# EAGLE library part MBH7BLZ02-109004 (library circuit_tree)
IC
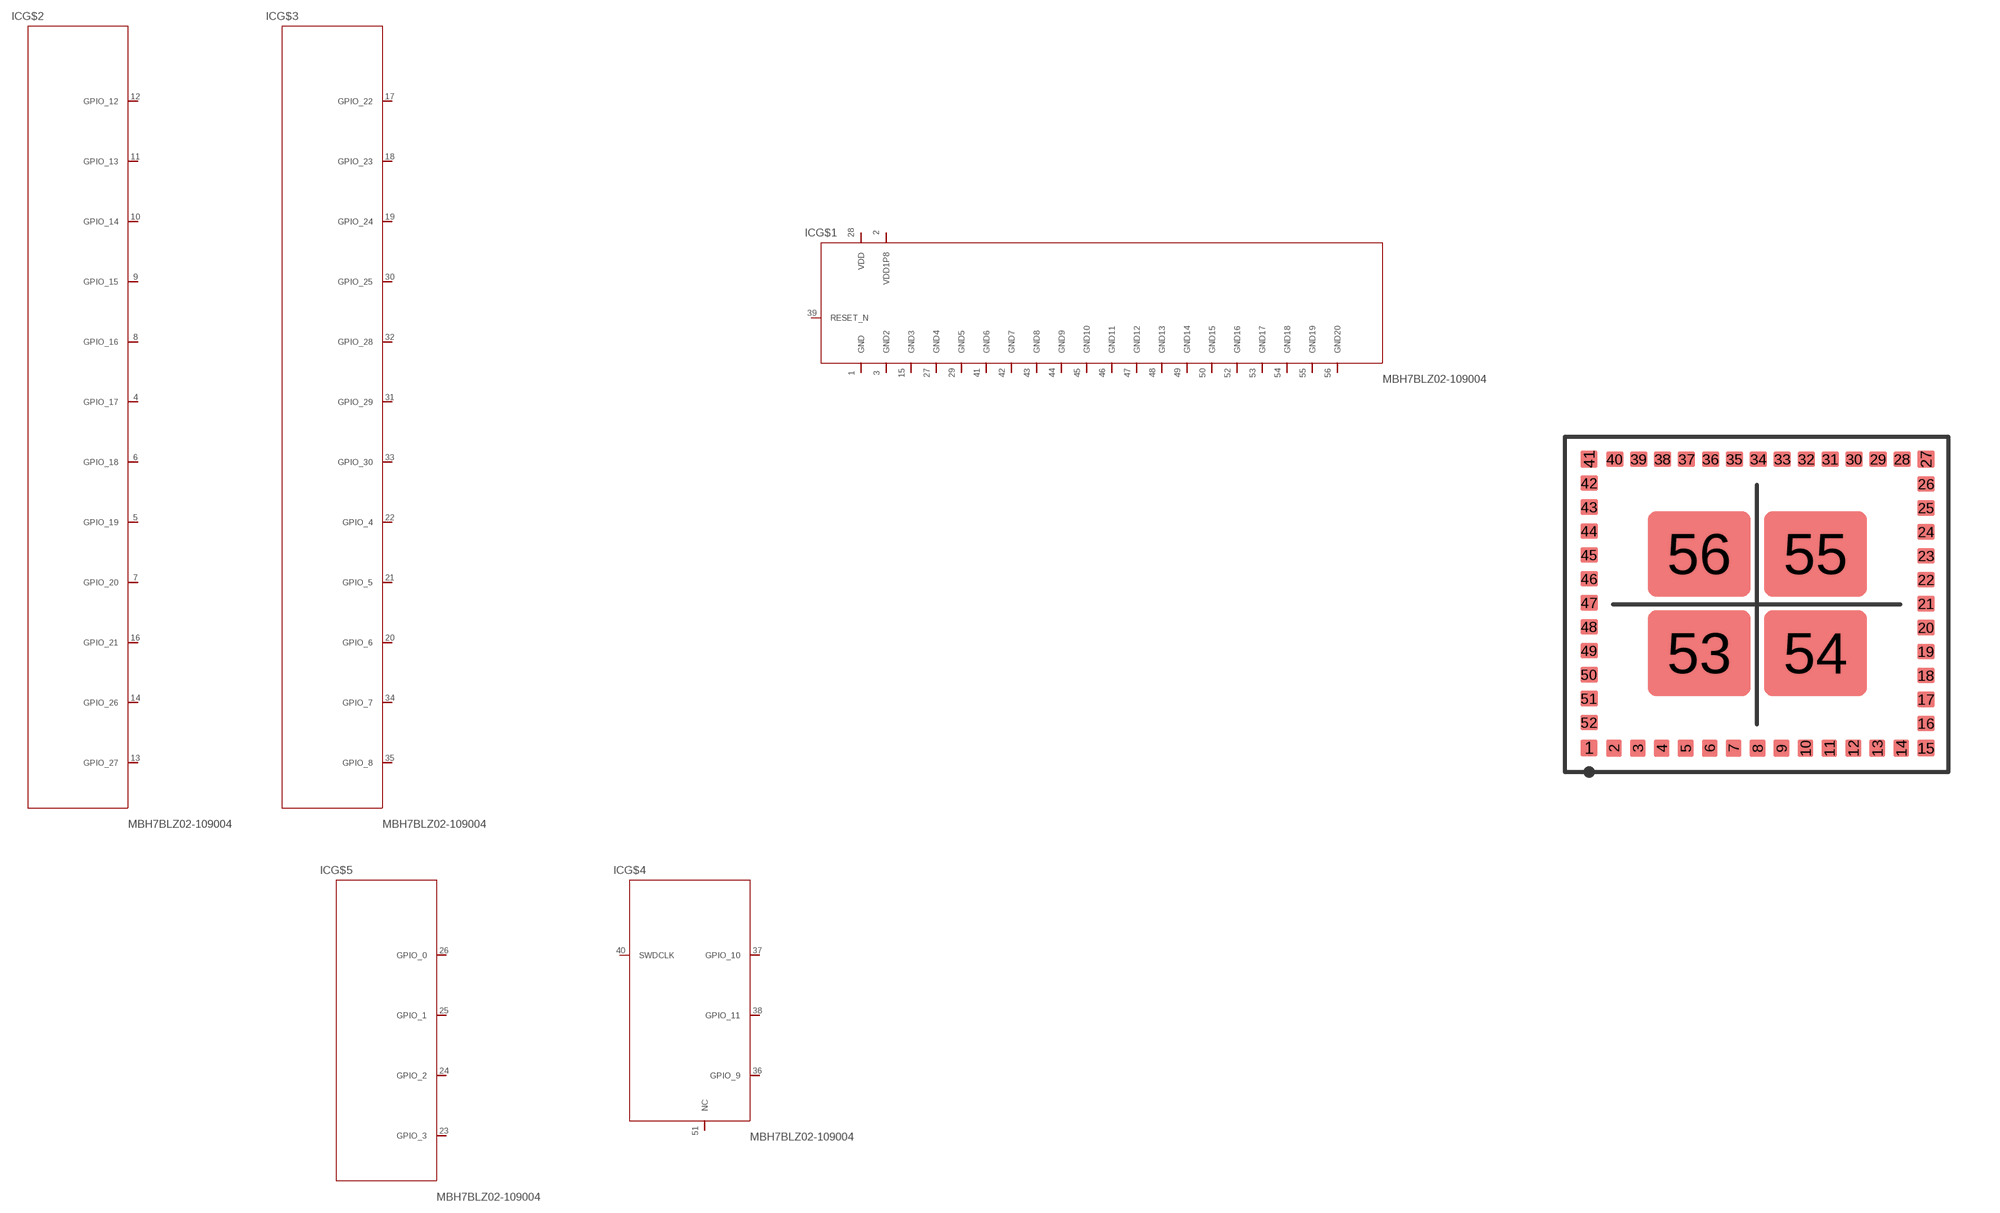
[diagram p4: symbol with the pads of MBH7BLZ02-109004; footprint MBH7BLZ02-109004]

Designator prefix IC; gates G$1=MBH7BLZ02-109004 G$2=MBH7BLZ02-1090042 G$3=MBH7BLZ02-1090043 G$4=MBH7BLZ02-1090044 G$5=MBH7BLZ02-1090045

## MBH7BLZ02-109004  [MBH7BLZ02-109004]
1  G$1:GND  pas
2  G$1:VDD1P8  pas
3  G$1:GND2  pas
4  G$2:GPIO_17  pas
5  G$2:GPIO_19  pas
6  G$2:GPIO_18  pas
7  G$2:GPIO_20  pas
8  G$2:GPIO_16  pas
9  G$2:GPIO_15  pas
10  G$2:GPIO_14  pas
11  G$2:GPIO_13  pas
12  G$2:GPIO_12  pas
13  G$2:GPIO_27  pas
14  G$2:GPIO_26  pas
15  G$1:GND3  pas
16  G$2:GPIO_21  pas
17  G$3:GPIO_22  pas
18  G$3:GPIO_23  pas
19  G$3:GPIO_24  pas
20  G$3:GPIO_6  pas
21  G$3:GPIO_5  pas
22  G$3:GPIO_4  pas
23  G$5:GPIO_3  pas
24  G$5:GPIO_2  pas
25  G$5:GPIO_1  pas
26  G$5:GPIO_0  pas
27  G$1:GND4  pas
28  G$1:VDD  pas
29  G$1:GND5  pas
30  G$3:GPIO_25  pas
31  G$3:GPIO_29  pas
32  G$3:GPIO_28  pas
33  G$3:GPIO_30  pas
34  G$3:GPIO_7  pas
35  G$3:GPIO_8  pas
36  G$4:GPIO_9  pas
37  G$4:GPIO_10  pas
38  G$4:GPIO_11  pas
39  G$1:RESET_N  pas
40  G$4:SWDCLK  pas
41  G$1:GND6  pas
42  G$1:GND7  pas
43  G$1:GND8  pas
44  G$1:GND9  pas
45  G$1:GND10  pas
46  G$1:GND11  pas
47  G$1:GND12  pas
48  G$1:GND13  pas
49  G$1:GND14  pas
50  G$1:GND15  pas
51  G$4:NC  pas
52  G$1:GND16  pas
53  G$1:GND17  pas
54  G$1:GND18  pas
55  G$1:GND19  pas
56  G$1:GND20  pas

## Footprint MBH7BLZ02-109004 (pad centres in mm)
smd 0.5 x 0.5: 1 0,0; 15 9.85,0; 27 9.85,8.45; 41 0,8.45
smd 0.45 x 0.5: 2 0.725,0; 3 1.425,0; 4 2.125,0; 5 2.825,0; 6 3.525,0; 7 4.225,0; 8 4.925,0; 9 5.625,0; 10 6.325,0; 11 7.025,0; 12 7.725,0; 13 8.425,0; 14 9.125,0
smd 0.5 x 0.45: 16 9.85,0.725; 17 9.85,1.425; 18 9.85,2.125; 19 9.85,2.825; 20 9.85,3.525; 21 9.85,4.225; 22 9.85,4.925; 23 9.85,5.625; 24 9.85,6.325; 25 9.85,7.025; 26 9.85,7.725; 28 9.15,8.45; 29 8.45,8.45; 30 7.75,8.45; 31 7.05,8.45; 32 6.35,8.45; 33 5.65,8.45; 34 4.95,8.45; 35 4.25,8.45; 36 3.55,8.45; 37 2.85,8.45; 38 2.15,8.45; 39 1.45,8.45; 40 0.75,8.45; 42 0,7.75; 43 0,7.05; 44 0,6.35; 45 0,5.65; 46 0,4.95; 47 0,4.25; 48 0,3.55; 49 0,2.85; 50 0,2.15; 51 0,1.45; 52 0,0.75
smd 3 x 2.5: 53 3.225,2.775; 54 6.625,2.775; 55 6.625,5.675; 56 3.225,5.675